# Altium integrated library Capacitor - Aluminium TH.IntLib: 4591 symbols (part 7 of 68)
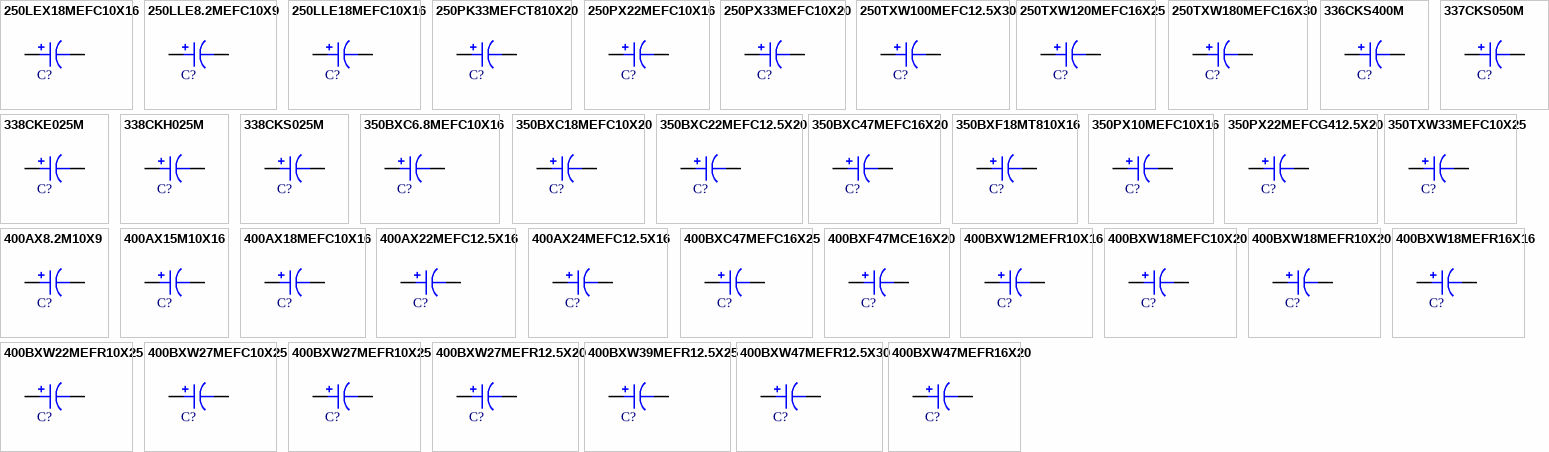
[diagram p120: symbols 250LEX18MEFC10X16 to 400BXW47MEFR16X20]

## 336CKS400M
designator C?, comment 33uF  (value not drawn)
CAP ALUM 33UF 20% 400V THRU HOLE; Part Number: 336CKS400M; Manufacturer: Illinois Capacitor; TemperatureRange: -25C ~ 85C; Type: Polar; Ripple Current: 260mA @ 120Hz; Value: 33uF; PartId: 26665; Supplier 1: Digi-Key; Supplier Part Number 1: 1572-1428-ND; ComponentLink1Description: Datasheet; ComponentLink1URL: http://www.illinoiscapacitor.com/pdf/seriesDocuments/CKR_CKS%20series.pdf; ComponentLink2Description: Digi-Key Listing; ComponentLink2URL: https://www.digikey.com/product-detail/en/illinois-capacitor/336CKS400M/1572-1428-ND/5412237; Tolerance: 20%; Voltage: 400V; Price: 1.63; Device Package: Radial, Can, 16mm
footprint CAP AL TH D16 L7.5 H26.5
pins: 1, 2

## 337CKS050M
designator C?, comment 330uF  (value not drawn)
CAP ALUM 330UF 20% 50V THRU HOLE; Part Number: 337CKS050M; Manufacturer: Illinois Capacitor; TemperatureRange: -40C ~ 85C; Type: Polar; Ripple Current: 710mA @ 120Hz; Value: 330uF; PartId: 25247; Supplier 1: Digi-Key; Supplier Part Number 1: 1572-1438-ND; ComponentLink1Description: Datasheet; ComponentLink1URL: http://www.illinoiscapacitor.com/pdf/seriesDocuments/CKR_CKS%20series.pdf; ComponentLink2Description: Digi-Key Listing; ComponentLink2URL: https://www.digikey.com/product-detail/en/illinois-capacitor/337CKS050M/1572-1438-ND/5412323; Tolerance: 20%; Voltage: 50V; Price: 0.57; Device Package: Radial, Can, 10mm
footprint CAP AL TH D10 L5 H17.5
pins: 1, 2

## 338CKE025M
designator C?, comment 3300uF  (value not drawn)
CAP ALUM 3300UF 20% 25V RADIAL; Part Number: 338CKE025M; Manufacturer: Illinois Capacitor; TemperatureRange: -40C ~ 105C; Type: Polar; Ripple Current: 1.645A; Value: 3300uF; PartId: 26635; Supplier 1: Digi-Key; Supplier Part Number 1: 1572-1127-ND; ComponentLink1Description: Datasheet; ComponentLink1URL: http://www.illinoiscapacitor.com/pdf/seriesDocuments/CKH_CKE%20series.pdf; ComponentLink2Description: Digi-Key Listing; ComponentLink2URL: https://www.digikey.com/product-detail/en/illinois-capacitor/338CKE025M/1572-1127-ND/5344057; Tolerance: 20%; Voltage: 25V; Price: 1.48; Device Package: Radial, Can, 16mm
footprint CAP AL TH D16 L7.5 H26.5
pins: 1, 2

## 338CKH025M
designator C?, comment 3300uF  (value not drawn)
CAP ALUM 3300UF 20% 25V T/H; Part Number: 338CKH025M; Manufacturer: Illinois Capacitor; TemperatureRange: -40C ~ 105C; Type: Polar; Ripple Current: 1.8A @ 120Hz; Value: 3300uF; PartId: 27023; Supplier 1: Digi-Key; Supplier Part Number 1: 1572-1441-ND; ComponentLink1Description: Datasheet; ComponentLink1URL: http://www.illinoiscapacitor.com/pdf/seriesDocuments/CKH_CKE%20series.pdf; ComponentLink2Description: Digi-Key Listing; ComponentLink2URL: https://www.digikey.com/product-detail/en/illinois-capacitor/338CKH025M/1572-1441-ND/5412415; Tolerance: 20%; Voltage: 25V; Price: 1.47; Device Package: Radial, Can, 16mm
footprint CAP AL TH D16 L7.5 H33.5
pins: 1, 2

## 338CKS025M
designator C?, comment 3300uF  (value not drawn)
RADIAL 85C LYTIC; Part Number: 338CKS025M; Manufacturer: Illinois Capacitor; TemperatureRange: -40C ~ 85C; Tolerance: 20%; Voltage: 25V; Type: Polar; Ripple Current: 2.305A; Value: 3300uF; PartId: 26673; Supplier 1: Digi-Key; Supplier Part Number 1: 1572-1128-ND; ComponentLink1Description: Datasheet; ComponentLink1URL: http://www.illinoiscapacitor.com/pdf/seriesDocuments/CKR_CKS%20series.pdf; ComponentLink2Description: Digi-Key Listing; ComponentLink2URL: https://www.digikey.com/product-detail/en/illinois-capacitor/338CKS025M/1572-1128-ND/5344058; Price: 1.77; Device Package: Radial, Can, 16mm
footprint CAP AL TH D16 L7.5 H26.5
pins: 1, 2

## 350BXC6.8MEFC10X16
designator C?, comment 6.8uF  (value not drawn)
CAP ALUM 6.8UF 20% 350V RADIAL; Part Number: 350BXC6.8MEFC10X16; Manufacturer: Rubycon; TemperatureRange: -25C ~ 105C; Type: Polar; Ripple Current: 84mA; Value: 6.8uF; PartId: 25625; Supplier 1: Digi-Key; Supplier Part Number 1: 1189-2247-ND; ComponentLink1Description: Datasheet; ComponentLink1URL: http://www.rubycon.co.jp/en/catalog/e_pdfs/aluminum/e_bxc.pdf; ComponentLink2Description: Digi-Key Listing; ComponentLink2URL: https://www.digikey.com/product-detail/en/rubycon/350BXC6.8MEFC10X16/1189-2247-ND/3563635; Tolerance: 20%; Voltage: 350V; Price: 0.71; Device Package: Radial, Can, 10mm
footprint CAP AL TH D10 L5 H22
pins: 1, 2

## 350BXC18MEFC10X20
designator C?, comment 18uF  (value not drawn)
CAP ALUM 18UF 20% 350V T/H; Part Number: 350BXC18MEFC10X20; Manufacturer: Rubycon; TemperatureRange: -25C ~ 105C; Type: Polar; Ripple Current: 105mA @ 120Hz; Value: 18uF; PartId: 25881; Supplier 1: Digi-Key; Supplier Part Number 1: 1189-3125-ND; ComponentLink1Description: Datasheet; ComponentLink1URL: http://www.rubycon.co.jp/en/catalog/e_pdfs/aluminum/e_bxc.pdf; ComponentLink2Description: Digi-Key Listing; ComponentLink2URL: https://www.digikey.com/product-detail/en/rubycon/350BXC18MEFC10X20/1189-3125-ND/6049845; Tolerance: 20%; Voltage: 350V; Price: 0.64; Device Package: Radial, Can, 10mm
footprint CAP AL TH D10 L5 H22
pins: 1, 2

## 350BXC22MEFC12.5X20
designator C?, comment 22uF  (value not drawn)
CAP ALUM 22UF 20% 350V RADIAL; Part Number: 350BXC22MEFC12.5X20; Manufacturer: Rubycon; TemperatureRange: -25C ~ 105C; Type: Polar; Ripple Current: 260mA; Value: 22uF; PartId: 23390; Supplier 1: Digi-Key; Supplier Part Number 1: 1189-2245-ND; ComponentLink1Description: Datasheet; ComponentLink1URL: http://www.rubycon.co.jp/en/catalog/e_pdfs/aluminum/e_bxc.pdf; ComponentLink2Description: Digi-Key Listing; ComponentLink2URL: https://www.digikey.com/product-detail/en/rubycon/350BXC22MEFC12.5X20/1189-2245-ND/3563985; Tolerance: 20%; Voltage: 350V; Price: 0.95; Device Package: Radial, Can, 12.5mm
footprint CAP AL TH D12.5 L5 H22
pins: 1, 2

## 350BXC47MEFC16X20
designator C?, comment 47uF  (value not drawn)
CAP ALUM 47UF 20% 350V RADIAL; Part Number: 350BXC47MEFC16X20; Manufacturer: Rubycon; TemperatureRange: -25C ~ 105C; Type: Polar; Ripple Current: 432mA; Value: 47uF; PartId: 26489; Supplier 1: Digi-Key; Supplier Part Number 1: 1189-2246-ND; ComponentLink1Description: Datasheet; ComponentLink1URL: http://www.rubycon.co.jp/en/catalog/e_pdfs/aluminum/e_bxc.pdf; ComponentLink2Description: Digi-Key Listing; ComponentLink2URL: https://www.digikey.com/product-detail/en/rubycon/350BXC47MEFC16X20/1189-2246-ND/3564350; Tolerance: 20%; Voltage: 350V; Price: 1.86; Device Package: Radial, Can, 16mm
footprint CAP AL TH D16 L7.5 H22
pins: 1, 2

## 350BXF18MT810X16
designator C?, comment 18uF  (value not drawn)
CAP ALUM 18UF 20% 350V RADIAL; Part Number: 350BXF18MT810X16; Manufacturer: Rubycon; TemperatureRange: -25C ~ 105C; Ripple Current: 135mA; Value: 18uF; PartId: 25507; Supplier 1: Digi-Key; Supplier Part Number 1: 1189-1616-3-ND; ComponentLink1Description: Datasheet; ComponentLink1URL: http://www.rubycon.co.jp/en/catalog/e_pdfs/aluminum/e_bxf.pdf; ComponentLink2Description: Digi-Key Listing; ComponentLink2URL: https://www.digikey.com/product-detail/en/rubycon/350BXF18MT810X16/1189-1616-3-ND/3134896; Tolerance: 20%; Voltage: 350V; Price: 0.496; Device Package: Radial, Can, 10mm
footprint CAP AL TH D10 L5 H22
pins: 1, 2

## 350PX10MEFC10X16
designator C?, comment 10uF  (value not drawn)
CAP ALUM 10UF 20% 350V RADIAL; Part Number: 350PX10MEFC10X16; Manufacturer: Rubycon; TemperatureRange: -40C ~ 105C; Type: Polar; Ripple Current: 95mA; Value: 10uF; PartId: 25513; Supplier 1: Digi-Key; Supplier Part Number 1: 1189-1256-ND; ComponentLink1Description: Datasheet; ComponentLink1URL: http://www.rubycon.co.jp/en/catalog/e_pdfs/aluminum/e_px.pdf; ComponentLink2Description: Digi-Key Listing; ComponentLink2URL: https://www.digikey.com/product-detail/en/rubycon/350PX10MEFC10X16/1189-1256-ND/3134212; Tolerance: 20%; Voltage: 350V; Price: 0.56; Device Package: Radial, Can, 10mm
footprint CAP AL TH D10 L5 H22
pins: 1, 2

## 350PX22MEFCG412.5X20
designator C?, comment 22uF  (value not drawn)
CAP ALUM 22UF 20% 350V RADIAL; Part Number: 350PX22MEFCG412.5X20; Manufacturer: Rubycon; TemperatureRange: -40C ~ 105C; Type: Polar; Ripple Current: 175mA; Value: 22uF; PartId: 23478; Supplier 1: Digi-Key; Supplier Part Number 1: 1189-1617-1-ND; ComponentLink1Description: Datasheet; ComponentLink1URL: http://www.rubycon.co.jp/en/catalog/e_pdfs/aluminum/e_px.pdf; ComponentLink2Description: Digi-Key Listing; ComponentLink2URL: https://www.digikey.com/product-detail/en/rubycon/350PX22MEFCG412.5X20/1189-1617-1-ND/3134574; Tolerance: 20%; Voltage: 350V; Price: 1.13; Device Package: Radial, Can, 12.5mm
footprint CAP AL TH D12.5 L5 H22
pins: 1, 2

## 350TXW33MEFC10X25
designator C?, comment 33uF  (value not drawn)
CAP ALUM 33UF 20% 350V RADIAL; Part Number: 350TXW33MEFC10X25; Manufacturer: Rubycon; TemperatureRange: -25C ~ 105C; Type: Polar; Ripple Current: 310mA; Value: 33uF; PartId: 26202; Supplier 1: Digi-Key; Supplier Part Number 1: 1189-1260-ND; ComponentLink1Description: Datasheet; ComponentLink1URL: http://www.rubycon.co.jp/en/catalog/e_pdfs/aluminum/e_txw.pdf; ComponentLink2Description: Digi-Key Listing; ComponentLink2URL: https://www.digikey.com/product-detail/en/rubycon/350TXW33MEFC10X25/1189-1260-ND/3134216; Tolerance: 20%; Voltage: 350V; Price: 1.75; Device Package: Radial, Can, 10mm
footprint CAP AL TH D10 L5 H30
pins: 1, 2

## 400AX8.2M10X9
designator C?, comment 8.2uF  (value not drawn)
CAP ALUM 8.2UF 20% 400V RADIAL; Part Number: 400AX8.2M10X9; Manufacturer: Rubycon; TemperatureRange: -40C ~ 105C; Ripple Current: 85mA; Value: 8.2uF; PartId: 24474; Supplier 1: Digi-Key; Supplier Part Number 1: 1189-2278-ND; ComponentLink1Description: Datasheet; ComponentLink1URL: http://www.rubycon.co.jp/en/catalog/e_pdfs/aluminum/e_ax.pdf; ComponentLink2Description: Digi-Key Listing; ComponentLink2URL: https://www.digikey.com/product-detail/en/rubycon/400AX8.2M10X9/1189-2278-ND/4842257; Tolerance: 20%; Voltage: 400V; Price: 0.63; Device Package: Radial, Can, 10mm
footprint CAP AL TH D10 L5 H12.5
pins: 1, 2

## 400AX15M10X16
designator C?, comment 15uF  (value not drawn)
CAP ALUM 15UF 20% 400V RADIAL; Part Number: 400AX15M10X16; Manufacturer: Rubycon; TemperatureRange: -40C ~ 105C; Ripple Current: 150mA; Value: 15uF; PartId: 25709; Supplier 1: Digi-Key; Supplier Part Number 1: 1189-2275-ND; ComponentLink1Description: Datasheet; ComponentLink1URL: http://www.rubycon.co.jp/en/catalog/e_pdfs/aluminum/e_ax.pdf; ComponentLink2Description: Digi-Key Listing; ComponentLink2URL: https://www.digikey.com/product-detail/en/rubycon/400AX15M10X16/1189-2275-ND/3563632; Tolerance: 20%; Voltage: 400V; Price: 1.03; Device Package: Radial, Can, 10mm
footprint CAP AL TH D10 L5 H22
pins: 1, 2

## 400AX18MEFC10X16
designator C?, comment 18uF  (value not drawn)
CAP ALUM 18UF 20% 400V T/H; Part Number: 400AX18MEFC10X16; Manufacturer: Rubycon; TemperatureRange: -40C ~ 105C; Type: Polar; Ripple Current: 150mA @ 120Hz; Value: 18uF; PartId: 25640; Supplier 1: Digi-Key; Supplier Part Number 1: 1189-3122-ND; ComponentLink1Description: Datasheet; ComponentLink1URL: http://www.rubycon.co.jp/en/catalog/e_pdfs/aluminum/e_ax.pdf; ComponentLink2Description: Digi-Key Listing; ComponentLink2URL: https://www.digikey.com/product-detail/en/rubycon/400AX18MEFC10X16/1189-3122-ND/6049842; Tolerance: 20%; Voltage: 400V; Price: 0.73; Device Package: Radial, Can, 10mm
footprint CAP AL TH D10 L5 H22
pins: 1, 2

## 400AX22MEFC12.5X16
designator C?, comment 22uF  (value not drawn)
CAP ALUM 22UF 20% 400V T/H; Part Number: 400AX22MEFC12.5X16; Manufacturer: Rubycon; TemperatureRange: -40C ~ 105C; Type: Polar; Ripple Current: 180mA @ 120Hz; Value: 22uF; PartId: 22913; Supplier 1: Digi-Key; Supplier Part Number 1: 1189-3123-ND; ComponentLink1Description: Datasheet; ComponentLink1URL: http://www.rubycon.co.jp/en/catalog/e_pdfs/aluminum/e_ax.pdf; ComponentLink2Description: Digi-Key Listing; ComponentLink2URL: https://www.digikey.com/product-detail/en/rubycon/400AX22MEFC12.5X16/1189-3123-ND/6049843; Tolerance: 20%; Voltage: 400V; Price: 0; Device Package: Radial, Can, 12.5mm
footprint CAP AL TH D12.5 L5 H20
pins: 1, 2

## 400AX24MEFC12.5X16
designator C?, comment 24uF  (value not drawn)
CAP ALUM 24UF 20% 400V T/H; Part Number: 400AX24MEFC12.5X16; Manufacturer: Rubycon; TemperatureRange: -40C ~ 105C; Type: Polar; Ripple Current: 190mA @ 120Hz; Value: 24uF; PartId: 22919; Supplier 1: Digi-Key; Supplier Part Number 1: 1189-3124-ND; ComponentLink1Description: Datasheet; ComponentLink1URL: http://www.rubycon.co.jp/en/catalog/e_pdfs/aluminum/e_ax.pdf; ComponentLink2Description: Digi-Key Listing; ComponentLink2URL: https://www.digikey.com/product-detail/en/rubycon/400AX24MEFC12.5X16/1189-3124-ND/6049844; Tolerance: 20%; Voltage: 400V; Price: 0; Device Package: Radial, Can, 12.5mm
footprint CAP AL TH D12.5 L5 H20
pins: 1, 2

## 400BXC47MEFC16X25
designator C?, comment 47uF  (value not drawn)
CAP ALUM 47UF 20% 400V RADIAL; Part Number: 400BXC47MEFC16X25; Manufacturer: Rubycon; TemperatureRange: -25C ~ 105C; Type: Polar; Ripple Current: 472mA; Value: 47uF; PartId: 26961; Supplier 1: Digi-Key; Supplier Part Number 1: 1189-2281-ND; ComponentLink1Description: Datasheet; ComponentLink1URL: http://www.rubycon.co.jp/en/catalog/e_pdfs/aluminum/e_bxc.pdf; ComponentLink2Description: Digi-Key Listing; ComponentLink2URL: https://www.digikey.com/product-detail/en/rubycon/400BXC47MEFC16X25/1189-2281-ND/3564420; Tolerance: 20%; Voltage: 400V; Price: 2.14; Device Package: Radial, Can, 16mm
footprint CAP AL TH D16 L7.5 H27
pins: 1, 2

## 400BXF47MCE16X20
designator C?, comment 47uF  (value not drawn)
CAP ALUM 47UF 20% 400V RADIAL; Part Number: 400BXF47MCE16X20; Manufacturer: Rubycon; TemperatureRange: -25C ~ 105C; Ripple Current: 480mA; Value: 47uF; PartId: 26501; Supplier 1: Digi-Key; Supplier Part Number 1: 1189-1308-ND; ComponentLink1Description: Datasheet; ComponentLink1URL: http://www.rubycon.co.jp/en/catalog/e_pdfs/aluminum/e_bxf.pdf; ComponentLink2Description: Digi-Key Listing; ComponentLink2URL: https://www.digikey.com/product-detail/en/rubycon/400BXF47MCE16X20/1189-1308-ND/3134264; Tolerance: 20%; Voltage: 400V; Price: 2.43; Device Package: Radial, Can, 16mm
footprint CAP AL TH D16 L7.5 H22
pins: 1, 2

## 400BXW12MEFR10X16
designator C?, comment 12uF  (value not drawn)
CAP ALUM 12UF 20% 400V T/H; Part Number: 400BXW12MEFR10X16; Manufacturer: Rubycon; TemperatureRange: -40C ~ 105C; Type: Polar; Ripple Current: 160mA @ 120Hz; Value: 12uF; PartId: 25711; Supplier 1: Digi-Key; Supplier Part Number 1: 1189-3126-ND; ComponentLink1Description: Datasheet; ComponentLink1URL: http://www.rubycon.co.jp/en/catalog/e_pdfs/aluminum/e_BXW.pdf; ComponentLink2Description: Digi-Key Listing; ComponentLink2URL: https://www.digikey.com/product-detail/en/rubycon/400BXW12MEFR10X16/1189-3126-ND/6049846; Tolerance: 20%; Voltage: 400V; Price: 1.09; Device Package: Radial, Can, 10mm
footprint CAP AL TH D10 L5 H22
pins: 1, 2

## 400BXW18MEFC10X20
designator C?, comment 18uF  (value not drawn)
CAP ALUM 18UF 20% 400V RADIAL; Part Number: 400BXW18MEFC10X20; Manufacturer: Rubycon; TemperatureRange: -25C ~ 105C; Type: Polar; Ripple Current: 220mA; Value: 18uF; PartId: 25990; Supplier 1: Digi-Key; Supplier Part Number 1: 1189-1314-ND; ComponentLink1Description: Datasheet; ComponentLink1URL: http://www.rubycon.co.jp/en/catalog/e_pdfs/aluminum/e_BXW.pdf; ComponentLink2Description: Digi-Key Listing; ComponentLink2URL: https://www.digikey.com/product-detail/en/rubycon/400BXW18MEFC10X20/1189-1314-ND/3134270; Tolerance: 20%; Voltage: 400V; Price: 1.03; Device Package: Radial, Can, 10mm
footprint CAP AL TH D10 L5 H22
pins: 1, 2

## 400BXW18MEFR10X20
designator C?, comment 18uF  (value not drawn)
CAP ALUM 18UF 20% 400V T/H; Part Number: 400BXW18MEFR10X20; Manufacturer: Rubycon; TemperatureRange: -40C ~ 105C; Type: Polar; Ripple Current: 220mA @ 120Hz; Value: 18uF; PartId: 25993; Supplier 1: Digi-Key; Supplier Part Number 1: 1189-3127-ND; ComponentLink1Description: Datasheet; ComponentLink1URL: http://www.rubycon.co.jp/en/catalog/e_pdfs/aluminum/e_BXW.pdf; ComponentLink2Description: Digi-Key Listing; ComponentLink2URL: https://www.digikey.com/product-detail/en/rubycon/400BXW18MEFR10X20/1189-3127-ND/6049901; Tolerance: 20%; Voltage: 400V; Price: 1.35; Device Package: Radial, Can, 10mm
footprint CAP AL TH D10 L5 H22
pins: 1, 2

## 400BXW18MEFR16X16
designator C?, comment 18uF  (value not drawn)
CAP ALUM 18UF 20% 400V T/H; Part Number: 400BXW18MEFR16X16; Manufacturer: Rubycon; TemperatureRange: -40C ~ 105C; Type: Polar; Ripple Current: 230mA @ 120Hz; Value: 18uF; PartId: 26347; Supplier 1: Digi-Key; Supplier Part Number 1: 1189-3128-ND; ComponentLink1Description: Datasheet; ComponentLink1URL: http://www.rubycon.co.jp/en/catalog/e_pdfs/aluminum/e_BXW.pdf; ComponentLink2Description: Digi-Key Listing; ComponentLink2URL: https://www.digikey.com/product-detail/en/rubycon/400BXW18MEFR16X16/1189-3128-ND/6049898; Tolerance: 20%; Voltage: 400V; Price: 1.83; Device Package: Radial, Can, 16mm
footprint CAP AL TH D16 L7.5 H20
pins: 1, 2

## 400BXW22MEFR10X25
designator C?, comment 22uF  (value not drawn)
CAP ALUM 22UF 20% 400V T/H; Part Number: 400BXW22MEFR10X25; Manufacturer: Rubycon; TemperatureRange: -40C ~ 105C; Type: Polar; Ripple Current: 240mA @ 120Hz; Value: 22uF; PartId: 26196; Supplier 1: Digi-Key; Supplier Part Number 1: 1189-3129-ND; ComponentLink1Description: Datasheet; ComponentLink1URL: http://www.rubycon.co.jp/en/catalog/e_pdfs/aluminum/e_BXW.pdf; ComponentLink2Description: Digi-Key Listing; ComponentLink2URL: https://www.digikey.com/product-detail/en/rubycon/400BXW22MEFR10X25/1189-3129-ND/6049902; Tolerance: 20%; Voltage: 400V; Price: 1.48; Device Package: Radial, Can, 10mm
footprint CAP AL TH D10 L5 H30
pins: 1, 2

## 400BXW27MEFC10X25
designator C?, comment 27uF  (value not drawn)
CAP ALUM 27UF 20% 400V RADIAL; Part Number: 400BXW27MEFC10X25; Manufacturer: Rubycon; TemperatureRange: -25C ~ 105C; Type: Polar; Ripple Current: 290mA; Value: 27uF; PartId: 26201; Supplier 1: Digi-Key; Supplier Part Number 1: 1189-1316-ND; ComponentLink1Description: Datasheet; ComponentLink1URL: http://www.rubycon.co.jp/en/catalog/e_pdfs/aluminum/e_BXW.pdf; ComponentLink2Description: Digi-Key Listing; ComponentLink2URL: https://www.digikey.com/product-detail/en/rubycon/400BXW27MEFC10X25/1189-1316-ND/3134272; Tolerance: 20%; Voltage: 400V; Price: 1.72; Device Package: Radial, Can, 10mm
footprint CAP AL TH D10 L5 H30
pins: 1, 2

## 400BXW27MEFR10X25
designator C?, comment 27uF  (value not drawn)
CAP ALUM 27UF 20% 400V T/H; Part Number: 400BXW27MEFR10X25; Manufacturer: Rubycon; TemperatureRange: -40C ~ 105C; Type: Polar; Ripple Current: 290mA @ 120Hz; Value: 27uF; PartId: 26198; Supplier 1: Digi-Key; Supplier Part Number 1: 1189-3130-ND; ComponentLink1Description: Datasheet; ComponentLink1URL: http://www.rubycon.co.jp/en/catalog/e_pdfs/aluminum/e_BXW.pdf; ComponentLink2Description: Digi-Key Listing; ComponentLink2URL: https://www.digikey.com/product-detail/en/rubycon/400BXW27MEFR10X25/1189-3130-ND/6049903; Tolerance: 20%; Voltage: 400V; Price: 1.53; Device Package: Radial, Can, 10mm
footprint CAP AL TH D10 L5 H30
pins: 1, 2

## 400BXW27MEFR12.5X20
designator C?, comment 27uF  (value not drawn)
CAP ALUM 27UF 20% 400V T/H; Part Number: 400BXW27MEFR12.5X20; Manufacturer: Rubycon; TemperatureRange: -40C ~ 105C; Type: Polar; Ripple Current: 850mA @ 120Hz; Value: 27uF; PartId: 23510; Supplier 1: Digi-Key; Supplier Part Number 1: 1189-3131-ND; ComponentLink1Description: Datasheet; ComponentLink1URL: http://www.rubycon.co.jp/en/catalog/e_pdfs/aluminum/e_BXW.pdf; ComponentLink2Description: Digi-Key Listing; ComponentLink2URL: https://www.digikey.com/product-detail/en/rubycon/400BXW27MEFR12.5X20/1189-3131-ND/6049904; Tolerance: 20%; Voltage: 400V; Price: 1.56; Device Package: Radial, Can, 12.5mm
footprint CAP AL TH D12.5 L5 H22
pins: 1, 2

## 400BXW39MEFR12.5X25
designator C?, comment 39uF  (value not drawn)
CAP ALUM 39UF 20% 400V T/H; Part Number: 400BXW39MEFR12.5X25; Manufacturer: Rubycon; TemperatureRange: -40C ~ 105C; Type: Polar; Ripple Current: 390mA @ 120Hz; Value: 39uF; PartId: 24180; Supplier 1: Digi-Key; Supplier Part Number 1: 1189-3135-ND; ComponentLink1Description: Datasheet; ComponentLink1URL: http://www.rubycon.co.jp/en/catalog/e_pdfs/aluminum/e_BXW.pdf; ComponentLink2Description: Digi-Key Listing; ComponentLink2URL: https://www.digikey.com/product-detail/en/rubycon/400BXW39MEFR12.5X25/1189-3135-ND/6049908; Tolerance: 20%; Voltage: 400V; Price: 1.9; Device Package: Radial, Can, 12.5mm
footprint CAP AL TH D12.5 L5 H27
pins: 1, 2

## 400BXW47MEFR12.5X30
designator C?, comment 47uF  (value not drawn)
CAP ALUM 47UF 20% 400V T/H; Part Number: 400BXW47MEFR12.5X30; Manufacturer: Rubycon; TemperatureRange: -40C ~ 105C; Type: Polar; Ripple Current: 455mA @ 120Hz; Value: 47uF; PartId: 24406; Supplier 1: Digi-Key; Supplier Part Number 1: 1189-3138-ND; ComponentLink1Description: Datasheet; ComponentLink1URL: http://www.rubycon.co.jp/en/catalog/e_pdfs/aluminum/e_BXW.pdf; ComponentLink2Description: Digi-Key Listing; ComponentLink2URL: https://www.digikey.com/product-detail/en/rubycon/400BXW47MEFR12.5X30/1189-3138-ND/6049911; Tolerance: 20%; Voltage: 400V; Price: 1.96; Device Package: Radial, Can, 12.5mm
footprint CAP AL TH D12.5 L5 H35.5
pins: 1, 2

## 400BXW47MEFR16X20
designator C?, comment 47uF  (value not drawn)
CAP ALUM 47UF 20% 400V T/H; Part Number: 400BXW47MEFR16X20; Manufacturer: Rubycon; TemperatureRange: -40C ~ 105C; Type: Polar; Ripple Current: 470mA @ 120Hz; Value: 47uF; PartId: 26494; Supplier 1: Digi-Key; Supplier Part Number 1: 1189-3139-ND; ComponentLink1Description: Datasheet; ComponentLink1URL: http://www.rubycon.co.jp/en/catalog/e_pdfs/aluminum/e_BXW.pdf; ComponentLink2Description: Digi-Key Listing; ComponentLink2URL: https://www.digikey.com/product-detail/en/rubycon/400BXW47MEFR16X20/1189-3139-ND/6050057; Tolerance: 20%; Voltage: 400V; Price: 1.98; Device Package: Radial, Can, 16mm
footprint CAP AL TH D16 L7.5 H22
pins: 1, 2

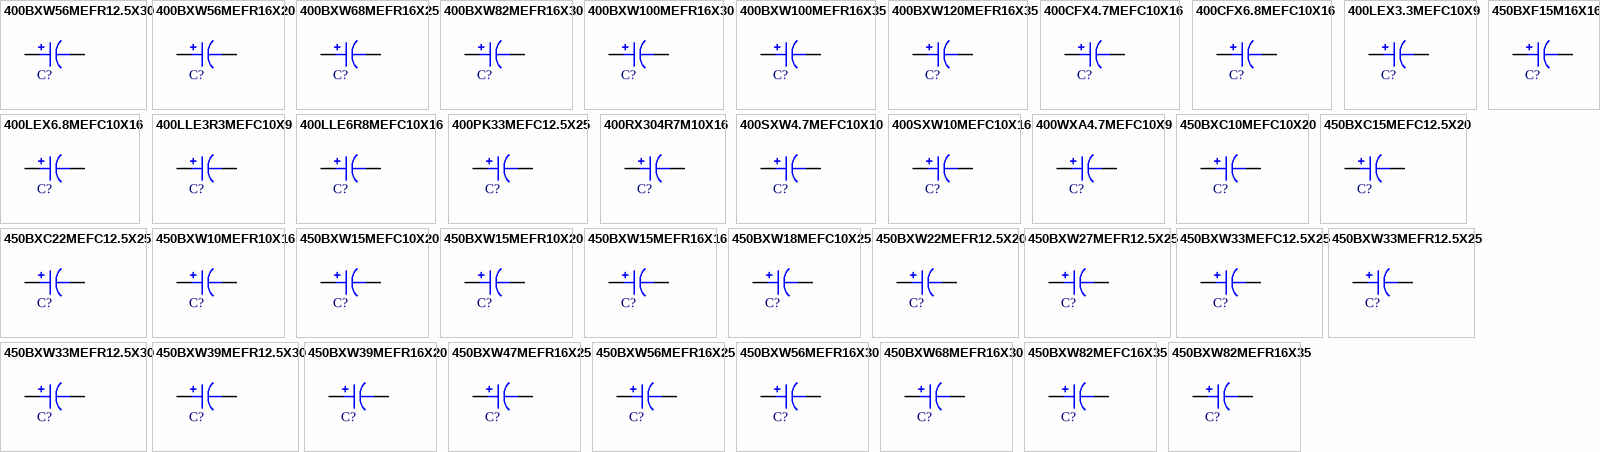
[diagram p11: symbols 400BXW56MEFR12.5X30 to 450BXW82MEFR16X35]

## 400BXW56MEFR12.5X30
designator C?, comment 56uF  (value not drawn)
CAP ALUM 56UF 20% 400V T/H; Part Number: 400BXW56MEFR12.5X30; Manufacturer: Rubycon; TemperatureRange: -40C ~ 105C; Type: Polar; Ripple Current: 495mA @ 120Hz; Value: 56uF; PartId: 24421; Supplier 1: Digi-Key; Supplier Part Number 1: 1189-3142-ND; ComponentLink1Description: Datasheet; ComponentLink1URL: http://www.rubycon.co.jp/en/catalog/e_pdfs/aluminum/e_BXW.pdf; ComponentLink2Description: Digi-Key Listing; ComponentLink2URL: https://www.digikey.com/product-detail/en/rubycon/400BXW56MEFR12.5X30/1189-3142-ND/6049914; Tolerance: 20%; Voltage: 400V; Price: 2.23; Device Package: Radial, Can, 12.5mm
footprint CAP AL TH D12.5 L5 H35.5
pins: 1, 2

## 400BXW56MEFR16X20
designator C?, comment 56uF  (value not drawn)
CAP ALUM 56UF 20% 400V T/H; Part Number: 400BXW56MEFR16X20; Manufacturer: Rubycon; TemperatureRange: -40C ~ 105C; Type: Polar; Ripple Current: 480mA @ 120Hz; Value: 56uF; PartId: 26500; Supplier 1: Digi-Key; Supplier Part Number 1: 1189-3144-ND; ComponentLink1Description: Datasheet; ComponentLink1URL: http://www.rubycon.co.jp/en/catalog/e_pdfs/aluminum/e_BXW.pdf; ComponentLink2Description: Digi-Key Listing; ComponentLink2URL: https://www.digikey.com/product-detail/en/rubycon/400BXW56MEFR16X20/1189-3144-ND/6050058; Tolerance: 20%; Voltage: 400V; Price: 2.23; Device Package: Radial, Can, 16mm
footprint CAP AL TH D16 L7.5 H22
pins: 1, 2

## 400BXW68MEFR16X25
designator C?, comment 68uF  (value not drawn)
CAP ALUM 68UF 20% 400V T/H; Part Number: 400BXW68MEFR16X25; Manufacturer: Rubycon; TemperatureRange: -40C ~ 105C; Type: Polar; Ripple Current: 570mA @ 120Hz; Value: 68uF; PartId: 26971; Supplier 1: Digi-Key; Supplier Part Number 1: 1189-3149-ND; ComponentLink1Description: Datasheet; ComponentLink1URL: http://www.rubycon.co.jp/en/catalog/e_pdfs/aluminum/e_BXW.pdf; ComponentLink2Description: Digi-Key Listing; ComponentLink2URL: https://www.digikey.com/product-detail/en/rubycon/400BXW68MEFR16X25/1189-3149-ND/6050060; Tolerance: 20%; Voltage: 400V; Price: 2.54; Device Package: Radial, Can, 16mm
footprint CAP AL TH D16 L7.5 H27
pins: 1, 2

## 400BXW82MEFR16X30
designator C?, comment 82uF  (value not drawn)
CAP ALUM 82UF 20% 400V T/H; Part Number: 400BXW82MEFR16X30; Manufacturer: Rubycon; TemperatureRange: -40C ~ 105C; Type: Polar; Ripple Current: 670mA @ 120Hz; Value: 82uF; PartId: 27260; Supplier 1: Digi-Key; Supplier Part Number 1: 1189-3154-ND; ComponentLink1Description: Datasheet; ComponentLink1URL: http://www.rubycon.co.jp/en/catalog/e_pdfs/aluminum/e_BXW.pdf; ComponentLink2Description: Digi-Key Listing; ComponentLink2URL: https://www.digikey.com/product-detail/en/rubycon/400BXW82MEFR16X30/1189-3154-ND/6050062; Tolerance: 20%; Voltage: 400V; Price: 2.83; Device Package: Radial, Can, 16mm
footprint CAP AL TH D16 L7.5 H33.5
pins: 1, 2

## 400BXW100MEFR16X30
designator C?, comment 100uF  (value not drawn)
CAP ALUM 100UF 20% 400V T/H; Part Number: 400BXW100MEFR16X30; Manufacturer: Rubycon; TemperatureRange: -40C ~ 105C; Type: Polar; Ripple Current: 710mA @ 120Hz; Value: 100uF; PartId: 27295; Supplier 1: Digi-Key; Supplier Part Number 1: 1189-3159-ND; ComponentLink1Description: Datasheet; ComponentLink1URL: http://www.rubycon.co.jp/en/catalog/e_pdfs/aluminum/e_BXW.pdf; ComponentLink2Description: Digi-Key Listing; ComponentLink2URL: https://www.digikey.com/product-detail/en/rubycon/400BXW100MEFR16X30/1189-3159-ND/6050064; Tolerance: 20%; Voltage: 400V; Price: 3.32; Device Package: Radial, Can, 16mm
footprint CAP AL TH D16 L7.5 H33.5
pins: 1, 2

## 400BXW100MEFR16X35
designator C?, comment 100uF  (value not drawn)
CAP ALUM 100UF 20% 400V T/H; Part Number: 400BXW100MEFR16X35; Manufacturer: Rubycon; TemperatureRange: -40C ~ 105C; Type: Polar; Ripple Current: 760mA @ 120Hz; Value: 100uF; PartId: 27432; Supplier 1: Digi-Key; Supplier Part Number 1: 1189-3160-ND; ComponentLink1Description: Datasheet; ComponentLink1URL: http://www.rubycon.co.jp/en/catalog/e_pdfs/aluminum/e_BXW.pdf; ComponentLink2Description: Digi-Key Listing; ComponentLink2URL: https://www.digikey.com/product-detail/en/rubycon/400BXW100MEFR16X35/1189-3160-ND/6050065; Tolerance: 20%; Voltage: 400V; Price: 3.15; Device Package: Radial, Can, 16mm
footprint CAP AL TH D16 L7.5 H37
pins: 1, 2

## 400BXW120MEFR16X35
designator C?, comment 120uF  (value not drawn)
CAP ALUM 120UF 20% 400V T/H; Part Number: 400BXW120MEFR16X35; Manufacturer: Rubycon; TemperatureRange: -40C ~ 105C; Type: Polar; Ripple Current: 810mA @ 120Hz; Value: 120uF; PartId: 27442; Supplier 1: Digi-Key; Supplier Part Number 1: 1189-3165-ND; ComponentLink1Description: Datasheet; ComponentLink1URL: http://www.rubycon.co.jp/en/catalog/e_pdfs/aluminum/e_BXW.pdf; ComponentLink2Description: Digi-Key Listing; ComponentLink2URL: https://www.digikey.com/product-detail/en/rubycon/400BXW120MEFR16X35/1189-3165-ND/6050068; Tolerance: 20%; Voltage: 400V; Price: 3.47; Device Package: Radial, Can, 16mm
footprint CAP AL TH D16 L7.5 H37
pins: 1, 2

## 400CFX4.7MEFC10X16
designator C?, comment 4.7uF  (value not drawn)
CAP ALUM 4.7UF 20% 400V RADIAL; Part Number: 400CFX4.7MEFC10X16; Manufacturer: Rubycon; TemperatureRange: -25C ~ 105C; Type: Polar; Ripple Current: 44mA; Value: 4.7uF; PartId: 25570; Supplier 1: Digi-Key; Supplier Part Number 1: 1189-2282-ND; ComponentLink1Description: Datasheet; ComponentLink1URL: http://www.rubycon.co.jp/en/catalog/e_pdfs/aluminum/e_cfx.pdf; ComponentLink2Description: Digi-Key Listing; ComponentLink2URL: https://www.digikey.com/product-detail/en/rubycon/400CFX4.7MEFC10X16/1189-2282-ND/3563650; Tolerance: 20%; Voltage: 400V; Price: 0.65; Device Package: Radial, Can, 10mm
footprint CAP AL TH D10 L5 H22
pins: 1, 2

## 400CFX6.8MEFC10X16
designator C?, comment 6.8uF  (value not drawn)
CAP ALUM 6.8UF 20% 400V RADIAL; Part Number: 400CFX6.8MEFC10X16; Manufacturer: Rubycon; TemperatureRange: -25C ~ 105C; Type: Polar; Ripple Current: 66mA; Value: 6.8uF; PartId: 25605; Supplier 1: Digi-Key; Supplier Part Number 1: 1189-2283-ND; ComponentLink1Description: Datasheet; ComponentLink1URL: http://www.rubycon.co.jp/en/catalog/e_pdfs/aluminum/e_cfx.pdf; ComponentLink2Description: Digi-Key Listing; ComponentLink2URL: https://www.digikey.com/product-detail/en/rubycon/400CFX6.8MEFC10X16/1189-2283-ND/3563649; Tolerance: 20%; Voltage: 400V; Price: 0.69; Device Package: Radial, Can, 10mm
footprint CAP AL TH D10 L5 H22
pins: 1, 2

## 400LEX3.3MEFC10X9
designator C?, comment 3.3uF  (value not drawn)
CAP ALUM 3.3UF 20% 400V RADIAL; Part Number: 400LEX3.3MEFC10X9; Manufacturer: Rubycon; TemperatureRange: -40C ~ 125C; Type: Polar; Ripple Current: 48mA; Value: 3.3uF; PartId: 24487; Supplier 1: Digi-Key; Supplier Part Number 1: 1189-2727-ND; ComponentLink1Description: Datasheet; ComponentLink1URL: http://www.rubycon.co.jp/en/catalog/e_pdfs/aluminum/e_lex.pdf; ComponentLink2Description: Digi-Key Listing; ComponentLink2URL: https://www.digikey.com/product-detail/en/rubycon/400LEX3.3MEFC10X9/1189-2727-ND/5051856; Tolerance: 20%; Voltage: 400V; Price: 0.75; Device Package: Radial, Can, 10mm
footprint CAP AL TH D10 L5 H12.5
pins: 1, 2

## 400LEX6.8MEFC10X16
designator C?, comment 6.8uF  (value not drawn)
CAP ALUM 6.8UF 20% 400V RADIAL; Part Number: 400LEX6.8MEFC10X16; Manufacturer: Rubycon; TemperatureRange: -40C ~ 125C; Type: Polar; Ripple Current: 85mA; Value: 6.8uF; PartId: 25677; Supplier 1: Digi-Key; Supplier Part Number 1: 1189-2730-ND; ComponentLink1Description: Datasheet; ComponentLink1URL: http://www.rubycon.co.jp/en/catalog/e_pdfs/aluminum/e_lex.pdf; ComponentLink2Description: Digi-Key Listing; ComponentLink2URL: https://www.digikey.com/product-detail/en/rubycon/400LEX6.8MEFC10X16/1189-2730-ND/5051859; Tolerance: 20%; Voltage: 400V; Price: 0.78; Device Package: Radial, Can, 10mm
footprint CAP AL TH D10 L5 H22
pins: 1, 2

## 400LLE3R3MEFC10X9
designator C?, comment 3.3uF  (value not drawn)
CAP ALUM 3.3UF 20% 400V RADIAL; Part Number: 400LLE3R3MEFC10X9; Manufacturer: Rubycon; TemperatureRange: -40C ~ 105C; Ripple Current: 48mA; Value: 3.3uF; PartId: 24458; Supplier 1: Digi-Key; Supplier Part Number 1: 1189-1332-ND; ComponentLink1Description: Datasheet; ComponentLink1URL: http://www.rubycon.co.jp/en/catalog/e_pdfs/aluminum/e_lle.pdf; ComponentLink2Description: Digi-Key Listing; ComponentLink2URL: https://www.digikey.com/product-detail/en/rubycon/400LLE3R3MEFC10X9/1189-1332-ND/3134288; Tolerance: 20%; Voltage: 400V; Price: 0.49; Device Package: Radial, Can, 10mm
footprint CAP AL TH D10 L5 H12.5
pins: 1, 2

## 400LLE6R8MEFC10X16
designator C?, comment 6.8uF  (value not drawn)
CAP ALUM 6.8UF 20% 400V RADIAL; Part Number: 400LLE6R8MEFC10X16; Manufacturer: Rubycon; TemperatureRange: -40C ~ 105C; Ripple Current: 85mA; Value: 6.8uF; PartId: 25566; Supplier 1: Digi-Key; Supplier Part Number 1: 1189-1335-ND; ComponentLink1Description: Datasheet; ComponentLink1URL: http://www.rubycon.co.jp/en/catalog/e_pdfs/aluminum/e_lle.pdf; ComponentLink2Description: Digi-Key Listing; ComponentLink2URL: https://www.digikey.com/product-detail/en/rubycon/400LLE6R8MEFC10X16/1189-1335-ND/3134291; Tolerance: 20%; Voltage: 400V; Price: 0.65; Device Package: Radial, Can, 10mm
footprint CAP AL TH D10 L5 H22
pins: 1, 2

## 400PK33MEFC12.5X25
designator C?, comment 33uF  (value not drawn)
CAP ALUM 33UF 20% 400V RADIAL; Part Number: 400PK33MEFC12.5X25; Manufacturer: Rubycon; TemperatureRange: -40C ~ 85C; Ripple Current: 240mA; Value: 33uF; PartId: 24101; Supplier 1: Digi-Key; Supplier Part Number 1: 1189-1336-ND; ComponentLink1Description: Datasheet; ComponentLink1URL: http://www.rubycon.co.jp/en/catalog/e_pdfs/aluminum/e_pk.pdf; ComponentLink2Description: Digi-Key Listing; ComponentLink2URL: https://www.digikey.com/product-detail/en/rubycon/400PK33MEFC12.5X25/1189-1336-ND/3134292; Tolerance: 20%; Voltage: 400V; Price: 1.32; Device Package: Radial, Can, 12.5mm
footprint CAP AL TH D12.5 L5 H27
pins: 1, 2

## 400RX304R7M10X16
designator C?, comment 4.7uF  (value not drawn)
CAP ALUM 4.7UF 20% 400V RADIAL; Part Number: 400RX304R7M10X16; Manufacturer: Rubycon; TemperatureRange: -25C ~ 130C; Type: Polar; Ripple Current: 25mA; Value: 4.7uF; PartId: 25601; Supplier 1: Digi-Key; Supplier Part Number 1: 1189-1341-ND; ComponentLink1Description: Datasheet; ComponentLink1URL: http://www.rubycon.co.jp/en/catalog/e_pdfs/aluminum/e_rx30.pdf; ComponentLink2Description: Digi-Key Listing; ComponentLink2URL: https://www.digikey.com/product-detail/en/rubycon/400RX304R7M10X16/1189-1341-ND/3134297; Tolerance: 20%; Voltage: 400V; Price: 0.69; Device Package: Radial, Can, 10mm
footprint CAP AL TH D10 L5 H22
pins: 1, 2

## 400SXW4.7MEFC10X10
designator C?, comment 4.7uF  (value not drawn)
CAP ALUM 4.7UF 20% 400V RADIAL; Part Number: 400SXW4.7MEFC10X10; Manufacturer: Rubycon; TemperatureRange: -25C ~ 105C; Type: Polar; Ripple Current: 60mA @ 120Hz; Value: 4.7uF; PartId: 24481; Supplier 1: Digi-Key; Supplier Part Number 1: 1189-2926-ND; ComponentLink1Description: Datasheet; ComponentLink1URL: http://www.rubycon.co.jp/en/catalog/e_pdfs/aluminum/e_sxw.pdf; ComponentLink2Description: Digi-Key Listing; ComponentLink2URL: https://www.digikey.com/product-detail/en/rubycon/400SXW4.7MEFC10X10/1189-2926-ND/5866568; Tolerance: 20%; Voltage: 400V; Price: 0.67; Device Package: Radial, Can, 10mm
footprint CAP AL TH D10 L5 H12.5
pins: 1, 2

## 400SXW10MEFC10X16
designator C?, comment 10uF  (value not drawn)
CAP ALUM 10UF 20% 400V RADIAL; Part Number: 400SXW10MEFC10X16; Manufacturer: Rubycon; TemperatureRange: -25C ~ 105C; Type: Polar; Ripple Current: 87mA @ 120Hz; Value: 10uF; PartId: 25387; Supplier 1: Digi-Key; Supplier Part Number 1: 1189-2930-ND; ComponentLink1Description: Datasheet; ComponentLink1URL: http://www.rubycon.co.jp/en/catalog/e_pdfs/aluminum/e_sxw.pdf; ComponentLink2Description: Digi-Key Listing; ComponentLink2URL: https://www.digikey.com/product-detail/en/rubycon/400SXW10MEFC10X16/1189-2930-ND/5866572; Tolerance: 20%; Voltage: 400V; Price: 0.76; Device Package: Radial, Can, 10mm
footprint CAP AL TH D10 L5 H17.5
pins: 1, 2

## 400WXA4.7MEFC10X9
designator C?, comment 4.7uF  (value not drawn)
CAP ALUM 4.7UF 20% 400V RADIAL; Part Number: 400WXA4.7MEFC10X9; Manufacturer: Rubycon; TemperatureRange: -25C ~ 105C; Type: Polar; Ripple Current: 49mA; Value: 4.7uF; PartId: 24468; Supplier 1: Digi-Key; Supplier Part Number 1: 1189-2920-ND; ComponentLink1Description: Datasheet; ComponentLink1URL: http://www.rubycon.co.jp/en/catalog/e_pdfs/aluminum/e_wxa.pdf; ComponentLink2Description: Digi-Key Listing; ComponentLink2URL: https://www.digikey.com/product-detail/en/rubycon/400WXA4.7MEFC10X9/1189-2920-ND/3563527; Tolerance: 20%; Voltage: 400V; Price: 0.57; Device Package: Radial, Can, 10mm
footprint CAP AL TH D10 L5 H12.5
pins: 1, 2

## 450BXC10MEFC10X20
designator C?, comment 10uF  (value not drawn)
CAP ALUM 10UF 20% 450V RADIAL; Part Number: 450BXC10MEFC10X20; Manufacturer: Rubycon; TemperatureRange: -25C ~ 105C; Type: Polar; Ripple Current: 99mA; Value: 10uF; PartId: 25911; Supplier 1: Digi-Key; Supplier Part Number 1: 1189-1894-ND; ComponentLink1Description: Datasheet; ComponentLink1URL: http://www.rubycon.co.jp/en/catalog/e_pdfs/aluminum/e_bxc.pdf; ComponentLink2Description: Digi-Key Listing; ComponentLink2URL: https://www.digikey.com/product-detail/en/rubycon/450BXC10MEFC10X20/1189-1894-ND/3563744; Tolerance: 20%; Voltage: 450V; Price: 0.7; Device Package: Radial, Can, 10mm
footprint CAP AL TH D10 L5 H22
pins: 1, 2

## 450BXC15MEFC12.5X20
designator C?, comment 15uF  (value not drawn)
CAP ALUM 15UF 20% 450V RADIAL; Part Number: 450BXC15MEFC12.5X20; Manufacturer: Rubycon; TemperatureRange: -25C ~ 105C; Type: Polar; Ripple Current: 135mA; Value: 15uF; PartId: 23511; Supplier 1: Digi-Key; Supplier Part Number 1: 1189-2291-ND; ComponentLink1Description: Datasheet; ComponentLink1URL: http://www.rubycon.co.jp/en/catalog/e_pdfs/aluminum/e_bxc.pdf; ComponentLink2Description: Digi-Key Listing; ComponentLink2URL: https://www.digikey.com/product-detail/en/rubycon/450BXC15MEFC12.5X20/1189-2291-ND/3563986; Tolerance: 20%; Voltage: 450V; Price: 1.57; Device Package: Radial, Can, 12.5mm
footprint CAP AL TH D12.5 L5 H22
pins: 1, 2

## 450BXC22MEFC12.5X25
designator C?, comment 22uF  (value not drawn)
CAP ALUM 22UF 20% 450V RADIAL; Part Number: 450BXC22MEFC12.5X25; Manufacturer: Rubycon; TemperatureRange: -25C ~ 105C; Type: Polar; Ripple Current: 240mA; Value: 22uF; PartId: 24172; Supplier 1: Digi-Key; Supplier Part Number 1: 1189-2292-ND; ComponentLink1Description: Datasheet; ComponentLink1URL: http://www.rubycon.co.jp/en/catalog/e_pdfs/aluminum/e_bxc.pdf; ComponentLink2Description: Digi-Key Listing; ComponentLink2URL: https://www.digikey.com/product-detail/en/rubycon/450BXC22MEFC12.5X25/1189-2292-ND/3564077; Tolerance: 20%; Voltage: 450V; Price: 1.71; Device Package: Radial, Can, 12.5mm
footprint CAP AL TH D12.5 L5 H27
pins: 1, 2

## 450BXF15M16X16
designator C?, comment 15uF  (value not drawn)
CAP ALUM 15UF 20% 450V RADIAL; Part Number: 450BXF15M16X16; Manufacturer: Rubycon; TemperatureRange: -25C ~ 105C; Ripple Current: 210mA; Value: 15uF; PartId: 26343; Supplier 1: Digi-Key; Supplier Part Number 1: 1189-1348-ND; ComponentLink1Description: Datasheet; ComponentLink1URL: http://www.rubycon.co.jp/en/catalog/e_pdfs/aluminum/e_bxf.pdf; ComponentLink2Description: Digi-Key Listing; ComponentLink2URL: https://www.digikey.com/product-detail/en/rubycon/450BXF15M16X16/1189-1348-ND/3134304; Tolerance: 20%; Voltage: 450V; Price: 1.66; Device Package: Radial, Can, 16mm
footprint CAP AL TH D16 L7.5 H20
pins: 1, 2

## 450BXW10MEFR10X16
designator C?, comment 10uF  (value not drawn)
CAP ALUM 10UF 20% 450V T/H; Part Number: 450BXW10MEFR10X16; Manufacturer: Rubycon; TemperatureRange: -40C ~ 105C; Type: Polar; Ripple Current: 130mA @ 120Hz; Value: 10uF; PartId: 25712; Supplier 1: Digi-Key; Supplier Part Number 1: 1189-3176-ND; ComponentLink1Description: Datasheet; ComponentLink1URL: http://www.rubycon.co.jp/en/catalog/e_pdfs/aluminum/e_BXW.pdf; ComponentLink2Description: Digi-Key Listing; ComponentLink2URL: https://www.digikey.com/product-detail/en/rubycon/450BXW10MEFR10X16/1189-3176-ND/6049847; Tolerance: 20%; Voltage: 450V; Price: 1.16; Device Package: Radial, Can, 10mm
footprint CAP AL TH D10 L5 H22
pins: 1, 2

## 450BXW15MEFC10X20
designator C?, comment 15uF  (value not drawn)
CAP ALUM 15UF 20% 450V RADIAL; Part Number: 450BXW15MEFC10X20; Manufacturer: Rubycon; TemperatureRange: -25C ~ 105C; Type: Polar; Ripple Current: 190mA; Value: 15uF; PartId: 25998; Supplier 1: Digi-Key; Supplier Part Number 1: 1189-1354-ND; ComponentLink1Description: Datasheet; ComponentLink1URL: http://www.rubycon.co.jp/en/catalog/e_pdfs/aluminum/e_BXW.pdf; ComponentLink2Description: Digi-Key Listing; ComponentLink2URL: https://www.digikey.com/product-detail/en/rubycon/450BXW15MEFC10X20/1189-1354-ND/3134310; Tolerance: 20%; Voltage: 450V; Price: 1.52; Device Package: Radial, Can, 10mm
footprint CAP AL TH D10 L5 H22
pins: 1, 2

## 450BXW15MEFR10X20
designator C?, comment 15uF  (value not drawn)
CAP ALUM 15UF 20% 450V T/H; Part Number: 450BXW15MEFR10X20; Manufacturer: Rubycon; TemperatureRange: -40C ~ 105C; Type: Polar; Ripple Current: 190mA @ 120Hz; Value: 15uF; PartId: 25996; Supplier 1: Digi-Key; Supplier Part Number 1: 1189-3177-ND; ComponentLink1Description: Datasheet; ComponentLink1URL: http://www.rubycon.co.jp/en/catalog/e_pdfs/aluminum/e_BXW.pdf; ComponentLink2Description: Digi-Key Listing; ComponentLink2URL: https://www.digikey.com/product-detail/en/rubycon/450BXW15MEFR10X20/1189-3177-ND/6049848; Tolerance: 20%; Voltage: 450V; Price: 1.42; Device Package: Radial, Can, 10mm
footprint CAP AL TH D10 L5 H22
pins: 1, 2

## 450BXW15MEFR16X16
designator C?, comment 15uF  (value not drawn)
CAP ALUM 15UF 20% 450V T/H; Part Number: 450BXW15MEFR16X16; Manufacturer: Rubycon; TemperatureRange: -40C ~ 105C; Type: Polar; Ripple Current: 210mA @ 120Hz; Value: 15uF; PartId: 26348; Supplier 1: Digi-Key; Supplier Part Number 1: 1189-3178-ND; ComponentLink1Description: Datasheet; ComponentLink1URL: http://www.rubycon.co.jp/en/catalog/e_pdfs/aluminum/e_BXW.pdf; ComponentLink2Description: Digi-Key Listing; ComponentLink2URL: https://www.digikey.com/product-detail/en/rubycon/450BXW15MEFR16X16/1189-3178-ND/6049899; Tolerance: 20%; Voltage: 450V; Price: 1.87; Device Package: Radial, Can, 16mm
footprint CAP AL TH D16 L7.5 H20
pins: 1, 2

## 450BXW18MEFC10X25
designator C?, comment 18uF  (value not drawn)
CAP ALUM 18UF 20% 450V RADIAL; Part Number: 450BXW18MEFC10X25; Manufacturer: Rubycon; TemperatureRange: -25C ~ 105C; Type: Polar; Ripple Current: 230mA; Value: 18uF; PartId: 26200; Supplier 1: Digi-Key; Supplier Part Number 1: 1189-1356-ND; ComponentLink1Description: Datasheet; ComponentLink1URL: http://www.rubycon.co.jp/en/catalog/e_pdfs/aluminum/e_BXW.pdf; ComponentLink2Description: Digi-Key Listing; ComponentLink2URL: https://www.digikey.com/product-detail/en/rubycon/450BXW18MEFC10X25/1189-1356-ND/3134312; Tolerance: 20%; Voltage: 450V; Price: 1.68; Device Package: Radial, Can, 10mm
footprint CAP AL TH D10 L5 H30
pins: 1, 2

## 450BXW22MEFR12.5X20
designator C?, comment 22uF  (value not drawn)
CAP ALUM 22UF 20% 450V RADIAL; Part Number: 450BXW22MEFR12.5X20; Manufacturer: Rubycon; TemperatureRange: -40C ~ 105C; Type: Polar; Ripple Current: 260mA; Value: 22uF; PartId: 23497; Supplier 1: Digi-Key; Supplier Part Number 1: 1189-2936-ND; ComponentLink1Description: Datasheet; ComponentLink1URL: http://www.rubycon.co.jp/en/catalog/e_pdfs/aluminum/e_BXW.pdf; ComponentLink2Description: Digi-Key Listing; ComponentLink2URL: https://www.digikey.com/product-detail/en/rubycon/450BXW22MEFR12.5X20/1189-2936-ND/5003146; Tolerance: 20%; Voltage: 450V; Price: 1.21; Device Package: Radial, Can, 12.5mm
footprint CAP AL TH D12.5 L5 H22
pins: 1, 2

## 450BXW27MEFR12.5X25
designator C?, comment 27uF  (value not drawn)
CAP ALUM 27UF 20% 450V T/H; Part Number: 450BXW27MEFR12.5X25; Manufacturer: Rubycon; TemperatureRange: -40C ~ 105C; Type: Polar; Ripple Current: 340mA @ 120Hz; Value: 27uF; PartId: 24174; Supplier 1: Digi-Key; Supplier Part Number 1: 1189-3183-ND; ComponentLink1Description: Datasheet; ComponentLink1URL: http://www.rubycon.co.jp/en/catalog/e_pdfs/aluminum/e_BXW.pdf; ComponentLink2Description: Digi-Key Listing; ComponentLink2URL: https://www.digikey.com/product-detail/en/rubycon/450BXW27MEFR12.5X25/1189-3183-ND/6049931; Tolerance: 20%; Voltage: 450V; Price: 1.75; Device Package: Radial, Can, 12.5mm
footprint CAP AL TH D12.5 L5 H27
pins: 1, 2

## 450BXW33MEFC12.5X25
designator C?, comment 33uF  (value not drawn)
CAP ALUM 33UF 20% 450V RADIAL; Part Number: 450BXW33MEFC12.5X25; Manufacturer: Rubycon; TemperatureRange: -25C ~ 105C; Type: Polar; Ripple Current: 330mA; Value: 33uF; PartId: 24182; Supplier 1: Digi-Key; Supplier Part Number 1: 1189-2506-ND; ComponentLink1Description: Datasheet; ComponentLink1URL: http://www.rubycon.co.jp/en/catalog/e_pdfs/aluminum/e_BXW.pdf; ComponentLink2Description: Digi-Key Listing; ComponentLink2URL: https://www.digikey.com/product-detail/en/rubycon/450BXW33MEFC12.5X25/1189-2506-ND/3564081; Tolerance: 20%; Voltage: 450V; Price: 1.93; Device Package: Radial, Can, 12.5mm
footprint CAP AL TH D12.5 L5 H27
pins: 1, 2

## 450BXW33MEFR12.5X25
designator C?, comment 33uF  (value not drawn)
CAP ALUM 33UF 20% 450V RADIAL; Part Number: 450BXW33MEFR12.5X25; Manufacturer: Rubycon; TemperatureRange: -40C ~ 105C; Type: Polar; Ripple Current: 360mA; Value: 33uF; PartId: 24118; Supplier 1: Digi-Key; Supplier Part Number 1: 1189-2937-ND; ComponentLink1Description: Datasheet; ComponentLink1URL: http://www.rubycon.co.jp/en/catalog/e_pdfs/aluminum/e_BXW.pdf; ComponentLink2Description: Digi-Key Listing; ComponentLink2URL: https://www.digikey.com/product-detail/en/rubycon/450BXW33MEFR12.5X25/1189-2937-ND/5011556; Tolerance: 20%; Voltage: 450V; Price: 1.4; Device Package: Radial, Can, 12.5mm
footprint CAP AL TH D12.5 L5 H27
pins: 1, 2

## 450BXW33MEFR12.5X30
designator C?, comment 33uF  (value not drawn)
CAP ALUM 33UF 20% 450V T/H; Part Number: 450BXW33MEFR12.5X30; Manufacturer: Rubycon; TemperatureRange: -40C ~ 105C; Type: Polar; Ripple Current: 400mA @ 120Hz; Value: 33uF; PartId: 24413; Supplier 1: Digi-Key; Supplier Part Number 1: 1189-3186-ND; ComponentLink1Description: Datasheet; ComponentLink1URL: http://www.rubycon.co.jp/en/catalog/e_pdfs/aluminum/e_BXW.pdf; ComponentLink2Description: Digi-Key Listing; ComponentLink2URL: https://www.digikey.com/product-detail/en/rubycon/450BXW33MEFR12.5X30/1189-3186-ND/6049934; Tolerance: 20%; Voltage: 450V; Price: 2.05; Device Package: Radial, Can, 12.5mm
footprint CAP AL TH D12.5 L5 H35.5
pins: 1, 2

## 450BXW39MEFR12.5X30
designator C?, comment 39uF  (value not drawn)
CAP ALUM 39UF 20% 450V T/H; Part Number: 450BXW39MEFR12.5X30; Manufacturer: Rubycon; TemperatureRange: -40C ~ 105C; Type: Polar; Ripple Current: 430mA @ 120Hz; Value: 39uF; PartId: 24419; Supplier 1: Digi-Key; Supplier Part Number 1: 1189-3190-ND; ComponentLink1Description: Datasheet; ComponentLink1URL: http://www.rubycon.co.jp/en/catalog/e_pdfs/aluminum/e_BXW.pdf; ComponentLink2Description: Digi-Key Listing; ComponentLink2URL: https://www.digikey.com/product-detail/en/rubycon/450BXW39MEFR12.5X30/1189-3190-ND/6049938; Tolerance: 20%; Voltage: 450V; Price: 2.21; Device Package: Radial, Can, 12.5mm
footprint CAP AL TH D12.5 L5 H35.5
pins: 1, 2

## 450BXW39MEFR16X20
designator C?, comment 39uF  (value not drawn)
CAP ALUM 39UF 20% 450V T/H; Part Number: 450BXW39MEFR16X20; Manufacturer: Rubycon; TemperatureRange: -40C ~ 105C; Type: Polar; Ripple Current: 400mA @ 120Hz; Value: 39uF; PartId: 26498; Supplier 1: Digi-Key; Supplier Part Number 1: 1189-3192-ND; ComponentLink1Description: Datasheet; ComponentLink1URL: http://www.rubycon.co.jp/en/catalog/e_pdfs/aluminum/e_BXW.pdf; ComponentLink2Description: Digi-Key Listing; ComponentLink2URL: https://www.digikey.com/product-detail/en/rubycon/450BXW39MEFR16X20/1189-3192-ND/6050079; Tolerance: 20%; Voltage: 450V; Price: 2.21; Device Package: Radial, Can, 16mm
footprint CAP AL TH D16 L7.5 H22
pins: 1, 2

## 450BXW47MEFR16X25
designator C?, comment 47uF  (value not drawn)
CAP ALUM 47UF 20% 450V T/H; Part Number: 450BXW47MEFR16X25; Manufacturer: Rubycon; TemperatureRange: -40C ~ 105C; Type: Polar; Ripple Current: 500mA @ 120Hz; Value: 47uF; PartId: 26970; Supplier 1: Digi-Key; Supplier Part Number 1: 1189-3196-ND; ComponentLink1Description: Datasheet; ComponentLink1URL: http://www.rubycon.co.jp/en/catalog/e_pdfs/aluminum/e_BXW.pdf; ComponentLink2Description: Digi-Key Listing; ComponentLink2URL: https://www.digikey.com/product-detail/en/rubycon/450BXW47MEFR16X25/1189-3196-ND/6050080; Tolerance: 20%; Voltage: 450V; Price: 2.52; Device Package: Radial, Can, 16mm
footprint CAP AL TH D16 L7.5 H27
pins: 1, 2

## 450BXW56MEFR16X25
designator C?, comment 56uF  (value not drawn)
CAP ALUM 56UF 20% 450V T/H; Part Number: 450BXW56MEFR16X25; Manufacturer: Rubycon; TemperatureRange: -40C ~ 105C; Type: Polar; Ripple Current: 530mA @ 120Hz; Value: 56uF; PartId: 26972; Supplier 1: Digi-Key; Supplier Part Number 1: 1189-3203-ND; ComponentLink1Description: Datasheet; ComponentLink1URL: http://www.rubycon.co.jp/en/catalog/e_pdfs/aluminum/e_BXW.pdf; ComponentLink2Description: Digi-Key Listing; ComponentLink2URL: https://www.digikey.com/product-detail/en/rubycon/450BXW56MEFR16X25/1189-3203-ND/6050083; Tolerance: 20%; Voltage: 450V; Price: 2.72; Device Package: Radial, Can, 16mm
footprint CAP AL TH D16 L7.5 H27
pins: 1, 2

## 450BXW56MEFR16X30
designator C?, comment 56uF  (value not drawn)
CAP ALUM 56UF 20% 450V T/H; Part Number: 450BXW56MEFR16X30; Manufacturer: Rubycon; TemperatureRange: -40C ~ 105C; Type: Polar; Ripple Current: 585mA @ 120Hz; Value: 56uF; PartId: 27265; Supplier 1: Digi-Key; Supplier Part Number 1: 1189-3202-ND; ComponentLink1Description: Datasheet; ComponentLink1URL: http://www.rubycon.co.jp/en/catalog/e_pdfs/aluminum/e_BXW.pdf; ComponentLink2Description: Digi-Key Listing; ComponentLink2URL: https://www.digikey.com/product-detail/en/rubycon/450BXW56MEFR16X30/1189-3202-ND/6050082; Tolerance: 20%; Voltage: 450V; Price: 2.94; Device Package: Radial, Can, 16mm
footprint CAP AL TH D16 L7.5 H33.5
pins: 1, 2

## 450BXW68MEFR16X30
designator C?, comment 68uF  (value not drawn)
CAP ALUM 68UF 20% 450V T/H; Part Number: 450BXW68MEFR16X30; Manufacturer: Rubycon; TemperatureRange: -40C ~ 105C; Type: Polar; Ripple Current: 610mA @ 120Hz; Value: 68uF; PartId: 27287; Supplier 1: Digi-Key; Supplier Part Number 1: 1189-3210-ND; ComponentLink1Description: Datasheet; ComponentLink1URL: http://www.rubycon.co.jp/en/catalog/e_pdfs/aluminum/e_BXW.pdf; ComponentLink2Description: Digi-Key Listing; ComponentLink2URL: https://www.digikey.com/product-detail/en/rubycon/450BXW68MEFR16X30/1189-3210-ND/6050086; Tolerance: 20%; Voltage: 450V; Price: 3.26; Device Package: Radial, Can, 16mm
footprint CAP AL TH D16 L7.5 H33.5
pins: 1, 2

## 450BXW82MEFC16X35
designator C?, comment 82uF  (value not drawn)
CAP ALUM 82UF 20% 450V RADIAL; Part Number: 450BXW82MEFC16X35; Manufacturer: Rubycon; TemperatureRange: -25C ~ 105C; Type: Polar; Ripple Current: 690mA; Value: 82uF; PartId: 27446; Supplier 1: Digi-Key; Supplier Part Number 1: 1189-1367-ND; ComponentLink1Description: Datasheet; ComponentLink1URL: http://www.rubycon.co.jp/en/catalog/e_pdfs/aluminum/e_BXW.pdf; ComponentLink2Description: Digi-Key Listing; ComponentLink2URL: https://www.digikey.com/product-detail/en/rubycon/450BXW82MEFC16X35/1189-1367-ND/3134323; Tolerance: 20%; Voltage: 450V; Price: 3.85; Device Package: Radial, Can, 16mm
footprint CAP AL TH D16 L7.5 H37
pins: 1, 2